# EAGLE library part DC-DC-STEP-DOWN-TPS5450DDARG4 (library timelapse-prototype-parts)
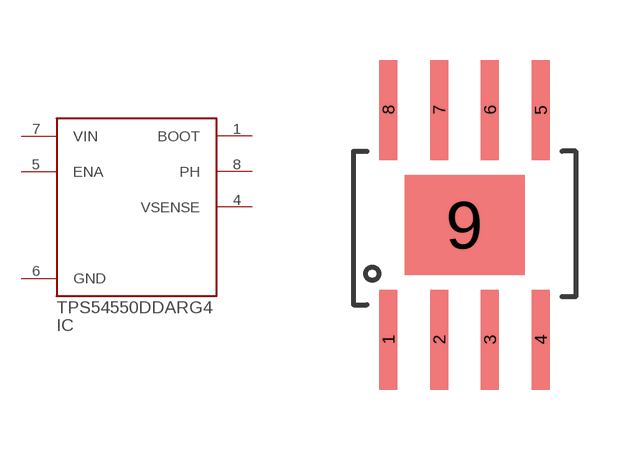
[diagram p7: symbol with the pads of DDA-POWERPAD; footprint DDA-POWERPAD]

Designator prefix IC

## DC-DC-STEP-DOWN-TPS5450DDARG4  [DDA-POWERPAD]
1  BOOT
4  VSENSE
5  ENA
6  GND
7  VIN
8  PH

## Footprint DDA-POWERPAD (pad centres in mm)
smd 0.45 x 2.5: 1 0,-5.75; 2 1.27,-5.75; 3 2.54,-5.75; 4 3.81,-5.75; 5 3.81,0; 6 2.54,0; 7 1.27,0; 8 0,0
smd 3 x 2.5: 9 1.905,-2.875